# EAGLE library part IMX233TQFP (library imx233)
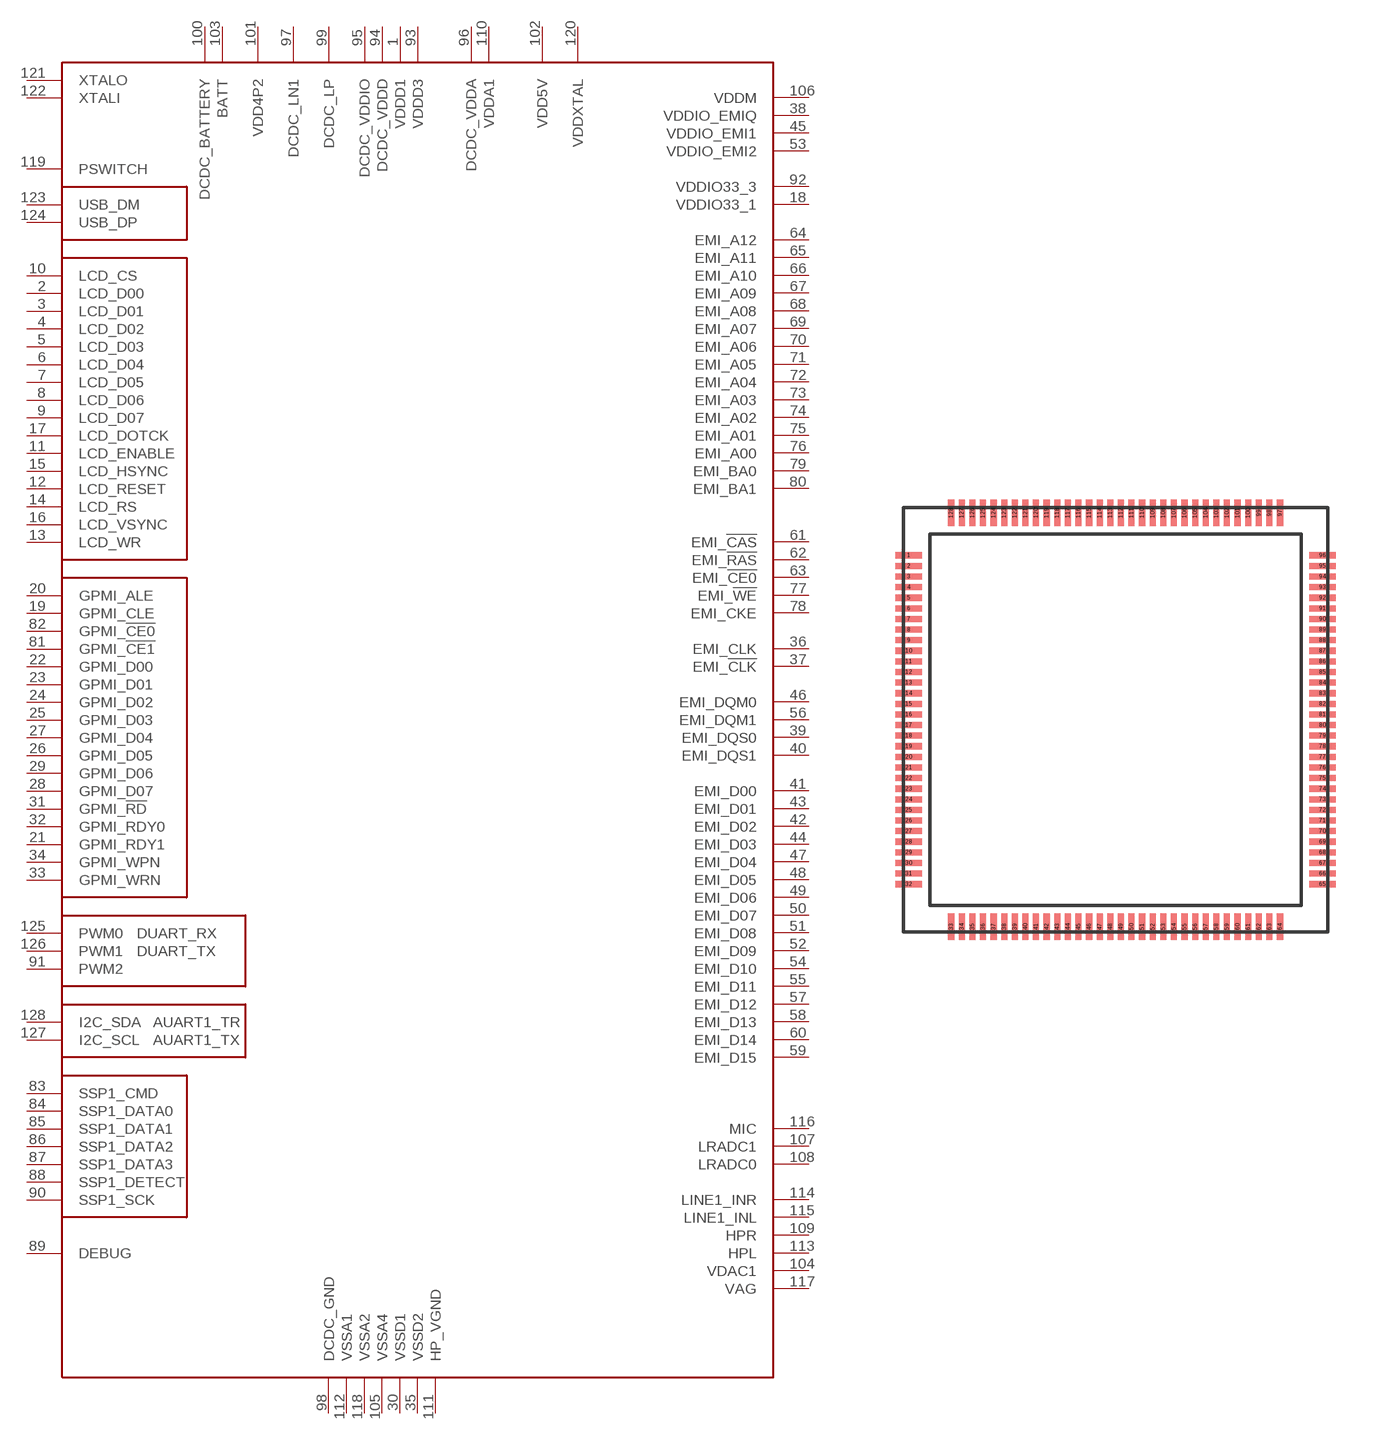
[diagram p0: symbol with the pads of 14MM_128TQFP_E0.40; footprint 14MM_128TQFP_E0.40]

Designator prefix -

## IMX233TQFP  [14MM_128TQFP_E0.40]
1  VDDD1
2  LCD_D00
3  LCD_D01
4  LCD_D02
5  LCD_D03
6  LCD_D04
7  LCD_D05
8  LCD_D06
9  LCD_D07
10  LCD_CS
11  LCD_ENABLE
12  LCD_RESET
13  LCD_WR
14  LCD_RS
15  LCD_HSYNC
16  LCD_VSYNC
17  LCD_DOTCK
18  VDDIO33_1
19  GPMI_CLE
20  GPMI_ALE
21  GPMI_RDY1
22  GPMI_D00
23  GPMI_D01
24  GPMI_D02
25  GPMI_D03
26  GPMI_D05
27  GPMI_D04
28  GPMI_D07
29  GPMI_D06
30  VSSD1
31  GPMI_!RD
32  GPMI_RDY0
33  GPMI_WRN
34  GPMI_WPN
35  VSSD2
36  EMI_CLK
37  EMI_!CLK
38  VDDIO_EMIQ
39  EMI_DQS0
40  EMI_DQS1
41  EMI_D00
42  EMI_D02
43  EMI_D01
44  EMI_D03
45  VDDIO_EMI1
46  EMI_DQM0
47  EMI_D04
48  EMI_D05
49  EMI_D06
50  EMI_D07
51  EMI_D08
52  EMI_D09
53  VDDIO_EMI2
54  EMI_D10
55  EMI_D11
56  EMI_DQM1
57  EMI_D12
58  EMI_D13
59  EMI_D15
60  EMI_D14
61  EMI_!CAS
62  EMI_!RAS
63  EMI_!CE0
64  EMI_A12
65  EMI_A11
66  EMI_A10
67  EMI_A09
68  EMI_A08
69  EMI_A07
70  EMI_A06
71  EMI_A05
72  EMI_A04
73  EMI_A03
74  EMI_A02
75  EMI_A01
76  EMI_A00
77  EMI_!WE
78  EMI_CKE
79  EMI_BA0
80  EMI_BA1
81  GPMI_!CE1
82  GPMI_!CE0
83  SSP1_CMD
84  SSP1_DATA0
85  SSP1_DATA1
86  SSP1_DATA2
87  SSP1_DATA3
88  SSP1_DETECT
89  DEBUG
90  SSP1_SCK
91  PWM2
92  VDDIO33_3
93  VDDD3
94  DCDC_VDDD
95  DCDC_VDDIO
96  DCDC_VDDA
97  DCDC_LN1
98  DCDC_GND
99  DCDC_LP
100  DCDC_BATTERY
101  VDD4P2
102  VDD5V
103  BATT
104  VDAC1
105  VSSA4
106  VDDM
107  LRADC1
108  LRADC0
109  HPR
110  VDDA1
111  HP_VGND
112  VSSA1
113  HPL
114  LINE1_INR
115  LINE1_INL
116  MIC
117  VAG
118  VSSA2
119  PSWITCH
120  VDDXTAL
121  XTALO
122  XTALI
123  USB_DM
124  USB_DP
125  PWM0
126  PWM1
127  I2C_SCL
128  I2C_SDA

## Footprint 14MM_128TQFP_E0.40 (pad centres in mm)
smd 1 x 0.23: 1 -0.8,-0.8; 2 -0.8,-1.2; 3 -0.8,-1.6; 4 -0.8,-2; 5 -0.8,-2.4; 6 -0.8,-2.8; 7 -0.8,-3.2; 8 -0.8,-3.6; 9 -0.8,-4; 10 -0.8,-4.4; 11 -0.8,-4.8; 12 -0.8,-5.2; 13 -0.8,-5.6; 14 -0.8,-6; 15 -0.8,-6.4; 16 -0.8,-6.8; 17 -0.8,-7.2; 18 -0.8,-7.6; 19 -0.8,-8; 20 -0.8,-8.4; 21 -0.8,-8.8; 22 -0.8,-9.2; 23 -0.8,-9.6; 24 -0.8,-10; 25 -0.8,-10.4; 26 -0.8,-10.8; 27 -0.8,-11.2; 28 -0.8,-11.6; 29 -0.8,-12; 30 -0.8,-12.4; 31 -0.8,-12.8; 32 -0.8,-13.2; 65 14.8,-13.2; 66 14.8,-12.8; 67 14.8,-12.4; 68 14.8,-12; 69 14.8,-11.6; 70 14.8,-11.2; 71 14.8,-10.8; 72 14.8,-10.4; 73 14.8,-10; 74 14.8,-9.6; 75 14.8,-9.2; 76 14.8,-8.8; 77 14.8,-8.4; 78 14.8,-8; 79 14.8,-7.6; 80 14.8,-7.2; 81 14.8,-6.8; 82 14.8,-6.4; 83 14.8,-6; 84 14.8,-5.6; 85 14.8,-5.2; 86 14.8,-4.8; 87 14.8,-4.4; 88 14.8,-4; 89 14.8,-3.6; 90 14.8,-3.2; 91 14.8,-2.8; 92 14.8,-2.4; 93 14.8,-2; 94 14.8,-1.6; 95 14.8,-1.2; 96 14.8,-0.8
smd 0.23 x 1: 33 0.8,-14.8; 34 1.2,-14.8; 35 1.6,-14.8; 36 2,-14.8; 37 2.4,-14.8; 38 2.8,-14.8; 39 3.2,-14.8; 40 3.6,-14.8; 41 4,-14.8; 42 4.4,-14.8; 43 4.8,-14.8; 44 5.2,-14.8; 45 5.6,-14.8; 46 6,-14.8; 47 6.4,-14.8; 48 6.8,-14.8; 49 7.2,-14.8; 50 7.6,-14.8; 51 8,-14.8; 52 8.4,-14.8; 53 8.8,-14.8; 54 9.2,-14.8; 55 9.6,-14.8; 56 10,-14.8; 57 10.4,-14.8; 58 10.8,-14.8; 59 11.2,-14.8; 60 11.6,-14.8; 61 12,-14.8; 62 12.4,-14.8; 63 12.8,-14.8; 64 13.2,-14.8; 97 13.2,0.8; 98 12.8,0.8; 99 12.4,0.8; 100 12,0.8; 101 11.6,0.8; 102 11.2,0.8; 103 10.8,0.8; 104 10.4,0.8; 105 10,0.8; 106 9.6,0.8; 107 9.2,0.8; 108 8.8,0.8; 109 8.4,0.8; 110 8,0.8; 111 7.6,0.8; 112 7.2,0.8; 113 6.8,0.8; 114 6.4,0.8; 115 6,0.8; 116 5.6,0.8; 117 5.2,0.8; 118 4.8,0.8; 119 4.4,0.8; 120 4,0.8; 121 3.6,0.8; 122 3.2,0.8; 123 2.8,0.8; 124 2.4,0.8; 125 2,0.8; 126 1.6,0.8; 127 1.2,0.8; 128 0.8,0.8